# EAGLE library part DS1307 (library -redpic-ic-components)
I2C Serial RTC w/56 bytes battery backed RAM
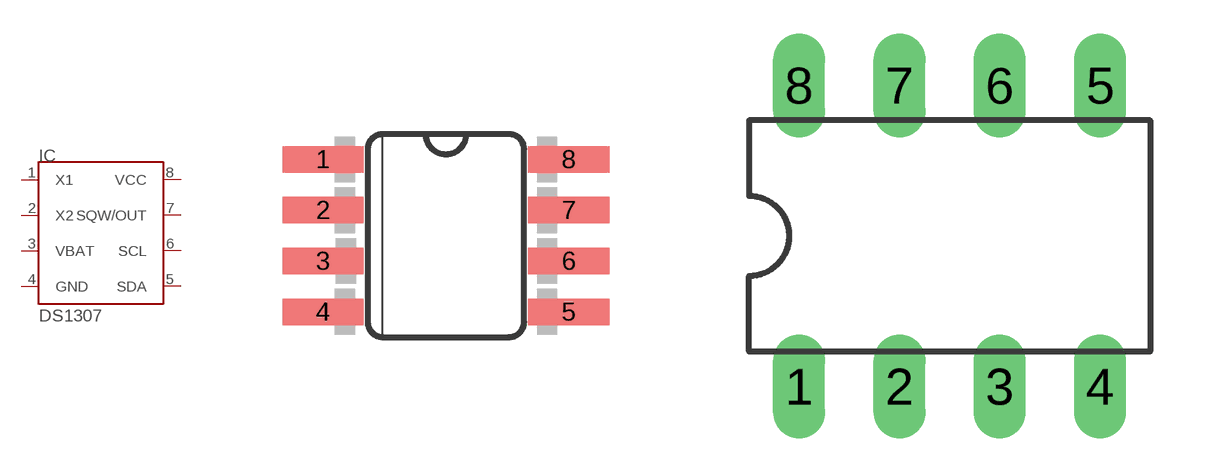
[diagram p3: symbol with the pads of SOIC-8; footprints SOIC-8, DIL08]

Designator prefix IC

## DS1307SMD  [SOIC-8]
1  X1  in
2  X2  out
3  VBAT  pwr
4  GND  pwr
5  SDA
6  SCL  in
7  SQW/OUT  out
8  VCC  pwr

## DS1307PDIP  [DIL08]
Pads as for SOIC-8

## Footprint SOIC-8 (pad centres in mm)
smd 2.032 x 0.66: 1 -3.073,1.27; 2 -3.073,0; 3 -3.073,-1.27; 4 -3.073,-2.54; 5 3.073,-2.54; 6 3.073,-1.27; 7 3.073,0; 8 3.073,1.27

## Footprint DIL08 (pad centres in mm)
Dual In Line Package
drill 0.813 long: 1 -3.81,-3.81; 2 -1.27,-3.81; 3 1.27,-3.81; 4 3.81,-3.81; 5 3.81,3.81; 6 1.27,3.81; 7 -1.27,3.81; 8 -3.81,3.81